# Altium footprint library Daxxn_Protection.PcbLib: 2 footprints
Each footprint in its own frame and in the unit in brackets; x right, y up, seen from the top. Pads: shape width x height; smd on the part's side, far side on the other; paste and mask are expansions set on the pad; w line width, h text height; cw(c..) or ccw(c..) is an arc to the next point about the centre after c.
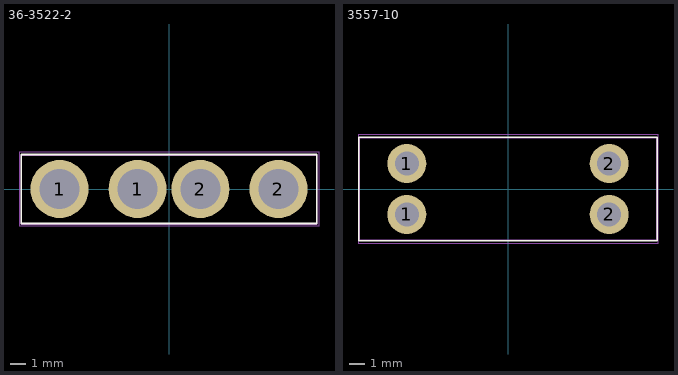
[diagram p0: the footprints below, top view; thin cyan lines are the x and y axes]

## 36-3522-2 [mm]
pads (4):
  round 3.8 hole 2.6: 1(-7.15,0) 1(-2.05,0) 2(2.05,0) 2(7.15,0)
F.SilkS:
  lines w0.12: -9.65,-2.25 -9.65,2.25 9.65,2.25 9.65,-2.25 -9.65,-2.25
F.CrtYd:
  lines w0.05: -9.8,-2.4 -9.8,2.4 9.8,2.4 9.8,-2.4 -9.8,-2.4
F.Fab:
  lines w0.1: -9.65,-2.3 -9.65,2.2 9.65,2.2 9.65,-2.3 -9.65,-2.3
  text "'.Designator'" at -4.047,5.51 h1

## 3557-10 [mm]
pads (4):
  round 2.6 hole 1.6: 1(-6.75,-1.7) 1(-6.75,1.7) 2(6.75,-1.7) 2(6.75,1.7)
F.SilkS:
  lines w0.12: -9.95,-3.45 -9.95,3.45 9.95,3.45 9.95,-3.45 -9.95,-3.45
F.CrtYd:
  lines w0.05: -10,-3.6 -10,3.6 10,3.6 10,-3.6 -10,-3.6
F.Fab:
  lines w0.1: -9.9,-3.4 -9.9,3.4 9.9,3.4 9.9,-3.4 -9.9,-3.4
  text "'.Designator'" at -4.047,6.78 h1